# Altium integrated library ON Semi Signal Management Touch Sensors.IntLib: 4 symbols
Pins are listed as number, name and electrical type; pins without a type are passive.

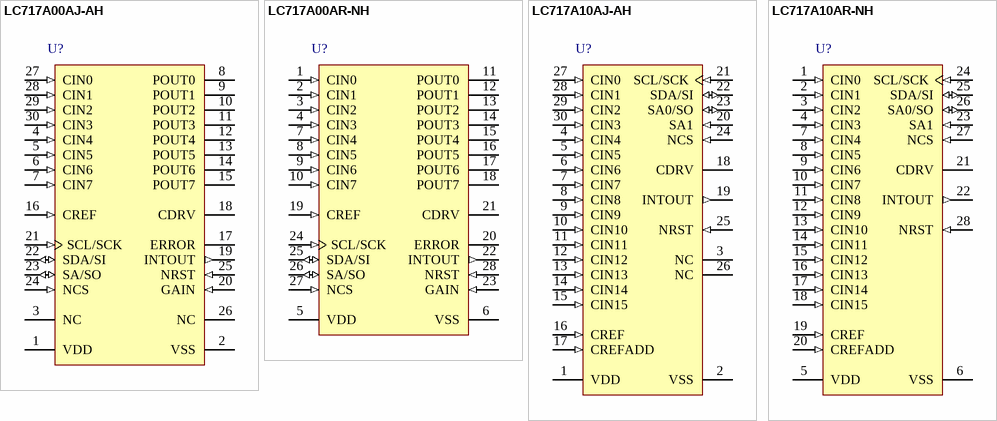
[diagram p0: symbols LC717A00AJ-AH to LC717A10AR-NH]

## LC717A00AJ-AH
designator U?
Capacitance-Digital-Converter LSI for Electrostatic Capacitive Touch Sensor, 2.6 to 5.5 V, -40 to 105 degC, 30-Pin SSOP, Pb-Free, Tape and Reel; Manufacturer: On Semiconductor; PartNumber: LC717A00AJ-AH; Interface Control: I2C SPI; Number of Sensing Inputs: 8; Proximity Sensing: Yes; VDD Max (V): 5.5; VDD Min (V): 2.6; DatasheetVersion: Rev. 1.0.1; PackageReference: SSOP-30; PackageDescription: 30-Pin Small Outline Package, Body 8 x 4.4 mm, Pitch 0.5 mm; Supplier 1: Digi-Key; Supplier Part Number 1: LC717A00AJ-AHOSTR-ND; Supplier 2: Digi-Key; Supplier Part Number 2: LC717A00AJ-AHOSCT-ND; Supplier 3: Digi-Key; Supplier Part Number 3: LC717A00AJ-AHOSDKR-ND; Supplier 4: Farnell; Supplier Part Number 4: 2400423; Supplier 5: Newark; Supplier Part Number 5: 39X0026; Supplier 6: Newark; Supplier Part Number 6: 56W6693; Supplier 7: Mouser; Supplier Part Number 7: 863-LC717A00AJ-AH; Number of Sensing Outputs: 8; Packing: Tape and Reel; RoHS: TRUE; Mounting Technology: Surface Mount; ComponentLink1Description: Manufacturer URL; ComponentLink1URL: http://www.onsemi.com/; ComponentLink2Description: Datasheet; ComponentLink2URL: http://www.onsemi.com/pub_link/Collateral/ENA2089-D.PDF; ComponentLink3Description: Package Specification; ComponentLink3URL: http://www.onsemi.com/pub_link/Collateral/ENA2162-D.PDF
footprint ONSC-SSOP-30_N (SOP, 30-Leads, Body 8x4.4mm, Pitch 0.5mm, IPC Medium Density)
footprint ONSC-SSOP-30_L (SOP, 30-Leads, Body 8x4.4mm, Pitch 0.5mm, IPC High Density)
footprint ONSC-SSOP-30_M (SOP, 30-Leads, Body 8x4.4mm, Pitch 0.5mm, IPC Low Density)
pins: 1 VDD (power) "Power supply (2.6V to 5.5V)", 2 VSS (power) "Ground (Earth)", 3 NC "connect to GND when mounted", 4 CIN4 (in) "Capacitance sensor input", 5 CIN5 (in) "Capacitance sensor input", 6 CIN6 (in) "Capacitance sensor input", 7 CIN7 (in) "Capacitance sensor input", 8 POUT0 (hiz) "Cin0 judgment result output", 9 POUT1 (hiz) "Cin1 judgment result output", 10 POUT2 (hiz) "Cin2 judgment result output", 11 POUT3 (hiz) "Cin3 judgment result output", 12 POUT4 (hiz) "Cin4 judgment result output", 13 POUT5 (hiz) "Cin5 judgment result output", 14 POUT6 (hiz) "Cin6 judgment result output", 15 POUT7 (hiz) "Cin7 judgment result output", 16 CREF (in) "Reference Capacitance input", 17 ERROR (hiz) "Error occurrence status output", 18 CDRV (hiz) "Output for capacitance sensors drive", 19 INTOUT (out) "Interrupt output", 20 GAIN (in) "Selection pin of the initial value of gain of the 2nd-amplifier", 21 SCL/SCK (in) "Clock input(I2C)/Clock input(SPI)", 22 SDA/SI (io) "Data input and output(I2C)/Data input (SPI)", 23 SA/SO (io) "Slave address selection (I2C)/Data output (SPI)", 24 NCS (in) "Interface selection/Chip select inverting input (SPI)", 25 NRST (in) "External reset signal inverting input", 26 NC "connect to GND when mounted", 27 CIN0 (in) "Capacitance sensor input", 28 CIN1 (in) "Capacitance sensor input", 29 CIN2 (in) "Capacitance sensor input", 30 CIN3 (in) "Capacitance sensor input"

## LC717A00AR-NH
designator U?
Capacitance-Digital-Converter LSI for Electrostatic Capacitive Touch Sensor, 2.6 to 5.5 V, -40 to 105 degC, 28-Pin VCT, Pb-Free, Tape and Reel; Manufacturer: On Semiconductor; PartNumber: LC717A00AR-NH; Interface Control: I2C SPI; Number of Sensing Inputs: 8; Proximity Sensing: Yes; VDD Max (V): 5.5; VDD Min (V): 2.6; DatasheetVersion: Rev. 1.0.1; PackageReference: VCT-28; PackageDescription: 28-Pin Leadless Chip Carrier, Body 3.5 x 3.5 mm, Pitch 0.4 mm; Supplier 1: Digi-Key; Supplier Part Number 1: LC717A00AR-NHOSTR-ND; Supplier 2: Digi-Key; Supplier Part Number 2: LC717A00AR-NHOSCT-ND; Supplier 3: Digi-Key; Supplier Part Number 3: LC717A00AR-NHOSDKR-ND; Supplier 4: Farnell; Supplier Part Number 4: 2216994; Supplier 5: Farnell; Supplier Part Number 5: 2368580; Supplier 6: Newark; Supplier Part Number 6: 46W0869; Supplier 7: Newark; Supplier Part Number 7: 07W6958; Supplier 8: Mouser; Supplier Part Number 8: 863-LC717A00AR-NH; Number of Sensing Outputs: 8; Packing: Tape and Reel; RoHS: TRUE; Mounting Technology: Surface Mount; ComponentLink1Description: Manufacturer URL; ComponentLink1URL: http://www.onsemi.com/; ComponentLink2Description: Datasheet; ComponentLink2URL: http://www.onsemi.com/pub/Collateral/ENA2048-D.PDF; ComponentLink3Description: Package Specification; ComponentLink3URL: http://www.onsemi.com/pub_link/Collateral/ENA2048-D.PDF
footprint ONSC-VCT-28_N (QFN, 28-Leads, Body 3.5x3.5mm, Pitch 0.4mm, IPC Medium Density)
footprint ONSC-VCT-28_L (QFN, 28-Leads, Body 3.5x3.5mm, Pitch 0.4mm, IPC High Density)
footprint ONSC-VCT-28_M (QFN, 28-Leads, Body 3.5x3.5mm, Pitch 0.4mm, IPC Low Density)
pins: 1 CIN0 (in) "Capacitance sensor input", 2 CIN1 (in) "Capacitance sensor input", 3 CIN2 (in) "Capacitance sensor input", 4 CIN3 (in) "Capacitance sensor input", 5 VDD (power) "Power supply (2.6V to 5.5V)", 6 VSS (power) "Ground (Earth)", 7 CIN4 (in) "Capacitance sensor input", 8 CIN5 (in) "Capacitance sensor input", 9 CIN6 (in) "Capacitance sensor input", 10 CIN7 (in) "Capacitance sensor input", 11 POUT0 (hiz) "Cin0 judgment result output", 12 POUT1 (hiz) "Cin1 judgment result output", 13 POUT2 (hiz) "Cin2 judgment result output", 14 POUT3 (hiz) "Cin3 judgment result output", 15 POUT4 (hiz) "Cin4 judgment result output", 16 POUT5 (hiz) "Cin5 judgment result output", 17 POUT6 (hiz) "Cin6 judgment result output", 18 POUT7 (hiz) "Cin7 judgment result output", 19 CREF (in) "Reference Capacitance input", 20 ERROR (hiz) "Error occurrence status output", 21 CDRV (hiz) "Output for capacitance sensors drive", 22 INTOUT (out) "Interrupt output", 23 GAIN (in) "Selection pin of the initial value of gain of the 2nd-amplifier", 24 SCL/SCK (in) "Clock input(I2C)/Clock input(SPI)", 25 SDA/SI (io) "Data input and output(I2C)/Data input (SPI)", 26 SA/SO (io) "Slave address selection (I2C)/Data output (SPI)", 27 NCS (in) "Interface selection/Chip select inverting input (SPI)", 28 NRST (in) "External reset signal inverting input"

## LC717A10AJ-AH
designator U?
Capacitance-Digital-Converter LSI for Electrostatic Capacitive Touch Sensor, 2.6 to 5.5 V, -40 to 105 degC, 30-Pin SSOP, Pb-Free, Tape and Reel; Manufacturer: On Semiconductor; PartNumber: LC717A10AJ-AH; Interface Control: I2C SPI; Number of Sensing Inputs: 16; Proximity Sensing: Yes; VDD Max (V): 5.5; VDD Min (V): 2.6; DatasheetVersion: Rev. 1.0.1; PackageReference: SSOP-30; PackageDescription: 30-Pin Small Outline Package, Body 8 x 4.4 mm, Pitch 0.5 mm; Supplier 1: Digi-Key; Supplier Part Number 1: LC717A10AJ-AH-ND; Supplier 2: Newark; Supplier Part Number 2: 56W6694; Supplier 3: Mouser; Supplier Part Number 3: 863-LC717A10AJ-AH; Packing: Tape and Reel; RoHS: TRUE; Mounting Technology: Surface Mount; ComponentLink1Description: Manufacturer URL; ComponentLink1URL: http://www.onsemi.com/; ComponentLink2Description: Datasheet; ComponentLink2URL: http://www.onsemi.com/pub_link/Collateral/ENA2162-D.PDF; ComponentLink3Description: Package Specification; ComponentLink3URL: http://www.onsemi.com/pub_link/Collateral/ENA2162-D.PDF
footprint ONSC-SSOP-30_N (SOP, 30-Leads, Body 8x4.4mm, Pitch 0.5mm, IPC Medium Density)
footprint ONSC-SSOP-30_L (SOP, 30-Leads, Body 8x4.4mm, Pitch 0.5mm, IPC High Density)
footprint ONSC-SSOP-30_M (SOP, 30-Leads, Body 8x4.4mm, Pitch 0.5mm, IPC Low Density)
pins: 1 VDD (power) "Power supply (2.6V to 5.5V)", 2 VSS (power) "Ground (Earth)", 3 NC "connect to GND when mounted", 4 CIN4 (in) "Capacitance sensor input", 5 CIN5 (in) "Capacitance sensor input", 6 CIN6 (in) "Capacitance sensor input", 7 CIN7 (in) "Capacitance sensor input", 8 CIN8 (in) "Capacitance sensor input", 9 CIN9 (in) "Capacitance sensor input", 10 CIN10 (in) "Capacitance sensor input", 11 CIN11 (in) "Capacitance sensor input", 12 CIN12 (in) "Capacitance sensor input", 13 CIN13 (in) "Capacitance sensor input", 14 CIN14 (in) "Capacitance sensor input", 15 CIN15 (in) "Capacitance sensor input", 16 CREF (in) "Reference Capacitance input", 17 CREFADD (in) "Reference Capacitance input for addition", 18 CDRV (hiz) "Output for capacitance sensors drive", 19 INTOUT (out) "Interrupt output", 20 SA1 (in) "Slave address selection (I2C)", 21 SCL/SCK (in) "Clock input(I2C)/Clock input(SPI)", 22 SDA/SI (io) "Data input and output(I2C)/Data input (SPI)", 23 SA0/SO (io) "Slave address selection (I2C)/Data output (SPI)", 24 NCS (in) "Interface selection/Chip select inverting input (SPI)", 25 NRST (in) "External reset signal inverting input", 26 NC "connect to GND when mounted", 27 CIN0 (in) "Capacitance sensor input", 28 CIN1 (in) "Capacitance sensor input", 29 CIN2 (in) "Capacitance sensor input", 30 CIN3 (in) "Capacitance sensor input"

## LC717A10AR-NH
designator U?
Capacitance-Digital-Converter LSI for Electrostatic Capacitive Touch Sensor, 2.6 to 5.5 V, -40 to 105 degC, 28-Pin VCT, Pb-Free, Tape and Reel; Manufacturer: On Semiconductor; PartNumber: LC717A10AR-NH; Interface Control: I2C SPI; Number of Sensing Inputs: 16; Proximity Sensing: Yes; VDD Max (V): 5.5; VDD Min (V): 2.6; DatasheetVersion: Rev. 1.0.1; PackageReference: VCT-28; PackageDescription: 28-Pin Leadless Chip Carrier, Body 3.5 x 3.5 mm, Pitch 0.4 mm; Supplier 1: Digi-Key; Supplier Part Number 1: LC717A10AR-NH-ND; Supplier 2: Mouser; Supplier Part Number 2: 863-LC717A10AR-NH; Packing: Tape and Reel; RoHS: TRUE; Mounting Technology: Surface Mount; ComponentLink1Description: Manufacturer URL; ComponentLink1URL: http://www.onsemi.com/; ComponentLink2Description: Datasheet; ComponentLink2URL: http://www.onsemi.com/pub_link/Collateral/ENA2161-D.PDF; ComponentLink3Description: Package Specification; ComponentLink3URL: http://www.onsemi.com/pub_link/Collateral/ENA2048-D.PDF
footprint ONSC-VCT-28_N (QFN, 28-Leads, Body 3.5x3.5mm, Pitch 0.4mm, IPC Medium Density)
footprint ONSC-VCT-28_L (QFN, 28-Leads, Body 3.5x3.5mm, Pitch 0.4mm, IPC High Density)
footprint ONSC-VCT-28_M (QFN, 28-Leads, Body 3.5x3.5mm, Pitch 0.4mm, IPC Low Density)
pins: 1 CIN0 (in) "Capacitance sensor input", 2 CIN1 (in) "Capacitance sensor input", 3 CIN2 (in) "Capacitance sensor input", 4 CIN3 (in) "Capacitance sensor input", 5 VDD (power) "Power supply (2.6V to 5.5V)", 6 VSS (power) "Ground (Earth)", 7 CIN4 (in) "Capacitance sensor input", 8 CIN5 (in) "Capacitance sensor input", 9 CIN6 (in) "Capacitance sensor input", 10 CIN7 (in) "Capacitance sensor input", 11 CIN8 (in) "Capacitance sensor input", 12 CIN9 (in) "Capacitance sensor input", 13 CIN10 (in) "Capacitance sensor input", 14 CIN11 (in) "Capacitance sensor input", 15 CIN12 (in) "Capacitance sensor input", 16 CIN13 (in) "Capacitance sensor input", 17 CIN14 (in) "Capacitance sensor input", 18 CIN15 (in) "Capacitance sensor input", 19 CREF (in) "Reference Capacitance input", 20 CREFADD (in) "Reference Capacitance input for addition", 21 CDRV (hiz) "Output for capacitance sensors drive", 22 INTOUT (out) "Interrupt output", 23 SA1 (in) "Slave address selection (I2C)", 24 SCL/SCK (in) "Clock input(I2C)/Clock input(SPI)", 25 SDA/SI (io) "Data input and output(I2C)/Data input (SPI)", 26 SA0/SO (io) "Slave address selection (I2C)/Data output (SPI)", 27 NCS (in) "Interface selection/Chip select inverting input (SPI)", 28 NRST (in) "External reset signal inverting input"